# EAGLE library part 10-WAY (library pimoroni-headers)
Header 10 Standard 10-pin 0.1" header. Use with straight break away headers (SKU : PRT-00116), right angle break away headers (PRT-00553), swiss pins (PRT-00743), machine pins (PRT-00117), and female headers (PRT-00115).
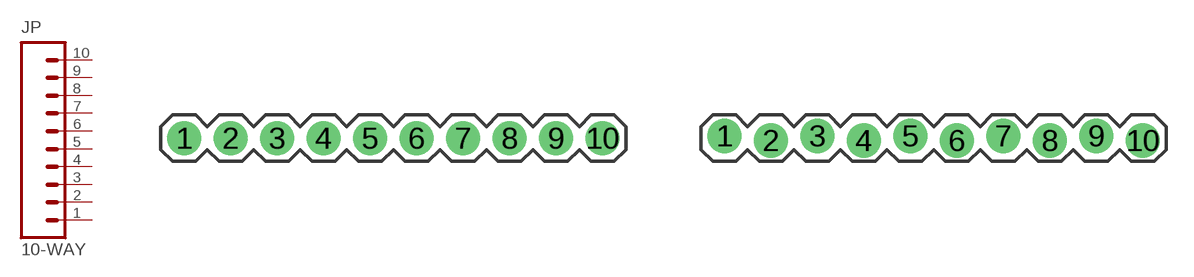
[diagram p2: symbol with the pads of 1X10; footprints 1X10, 1X10-LOCK-MALE]

Designator prefix JP

## 10-WAY-MALE  [1X10]
1  1  pas
2  2  pas
3  3  pas
4  4  pas
5  5  pas
6  6  pas
7  7  pas
8  8  pas
9  9  pas
10  10  pas

## 10-WAY-LOCK-MALE  [1X10-LOCK-MALE]
Pads as for 1X10

## 10-WAY-SMD (PROD_ID: CONN-11291)  [1X10-SMD]
Pads as for 1X10

## 10-WAY-LOCK-FEMALE  [1X10-LOCK-FEMALE]
Pads as for 1X10

## 10-WAY-LOCK-NOSILK  [1X10-LOCK-NOSILK]
Pads as for 1X10

## 10-WAY-LONGPADS  [1X10_LONGPADS]
Pads as for 1X10

## 10-WAY  [1X10_FEMALE_SMT_RIGHT_ANGLE]
A1  1  pas
A2  2  pas
A3  3  pas
A4  4  pas
A5  5  pas
A6  6  pas
A7  7  pas
A8  8  pas
A9  9  pas
A10  10  pas
B1  1  pas
B2  2  pas
B3  3  pas
B4  4  pas
B5  5  pas
B6  6  pas
B7  7  pas
B8  8  pas
B9  9  pas
B10  10  pas

## 10-WAY-SMT-PADS  [1X10-SMT-PADS]
Pads as for 1X10

## Footprint 1X10 (pad centres in mm)
drill 1.016 pad 1.88: 1 0,0; 2 2.54,0; 3 5.08,0; 4 7.62,0; 5 10.16,0; 6 12.7,0; 7 15.24,0; 8 17.78,0; 9 20.32,0; 10 22.86,0

## Footprint 1X10-LOCK-MALE (pad centres in mm)
drill 1.016 pad 1.88: 1 0,0.127; 2 2.54,-0.127; 3 5.08,0.127; 4 7.62,-0.127; 5 10.16,0.127; 6 12.7,-0.127; 7 15.24,0.127; 8 17.78,-0.127; 9 20.32,0.127; 10 22.86,-0.127

## Footprint 1X10-SMD (pad centres in mm)
smd 1.02 x 6: 1 0,0; 2 2.54,0; 3 5.08,0; 4 7.62,0; 5 10.16,0; 6 12.7,0; 7 15.24,0; 8 17.78,0; 9 20.32,0; 10 22.86,0

## Footprint 1X10-LOCK-FEMALE (pad centres in mm)
drill 0.9 pad 1.88: 1 -11.43,0.127; 2 -8.89,-0.127; 3 -6.35,0.127; 4 -3.81,-0.127; 5 -1.27,0.127; 6 1.27,-0.127; 7 3.81,0.127; 8 6.35,-0.127; 9 8.89,0.127; 10 11.43,-0.127

## Footprint 1X10-LOCK-NOSILK (pad centres in mm)
drill 1.016 pad 1.88: 1 -11.43,0.127; 2 -8.89,-0.127; 3 -6.35,0.127; 4 -3.81,-0.127; 5 -1.27,0.127; 6 1.27,-0.127; 7 3.81,0.127; 8 6.35,-0.127; 9 8.89,0.127; 10 11.43,-0.127

## Footprint 1X10_LONGPADS (pad centres in mm)
drill 1.118 pad 1.88 long: 1 0,0; 2 2.54,0; 3 5.08,0; 4 7.62,0; 5 10.16,0; 6 12.7,0; 7 15.24,0; 8 17.78,0; 9 20.32,0; 10 22.86,0

## Footprint 1X10_FEMALE_SMT_RIGHT_ANGLE (pad centres in mm)
smd 1 x 2.4: A1 -11.43,4.8; A2 -8.89,4.8; A3 -6.35,4.8; A4 -3.81,4.8; A5 -1.27,4.8; A6 1.27,4.8; A7 3.81,4.8; A8 6.35,4.8; A9 8.89,4.8; A10 11.43,4.8; B1 -11.43,-4.8; B2 -8.89,-4.8; B3 -6.35,-4.8; B4 -3.81,-4.8; B5 -1.27,-4.8; B6 1.27,-4.8; B7 3.81,-4.8; B8 6.35,-4.8; B9 8.89,-4.8; B10 11.43,-4.8

## Footprint 1X10-SMT-PADS (pad centres in mm)
smd 1.5 x 1.5: 1 -11.43,0; 2 -8.89,0; 3 -6.35,0; 4 -3.81,0; 5 -1.27,0; 6 1.27,0; 7 3.81,0; 8 6.35,0; 9 8.89,0; 10 11.43,0